# EAGLE library part MC74HC175ADG (library MC74HC175ADG)
ON Semiconductor MC74HC175ADG, D Type Flip Flop, LSTTL, 2 6 V, 16-Pin SOIC Source: Datasheet <http://www.onsemi.com/pub/Collateral/MC74HC175A-D.PDF>
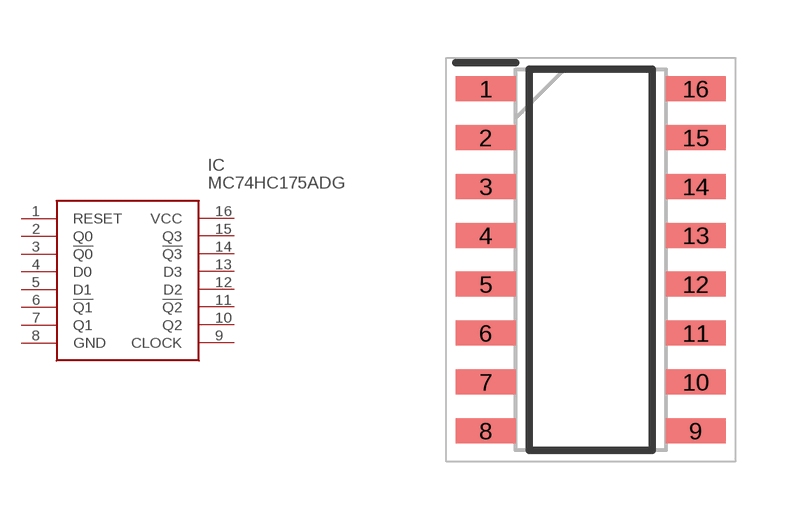
[diagram p0: symbol with the pads of SOIC127P600X175-16N; footprint SOIC127P600X175-16N]

Designator prefix IC

## MC74HC175ADG (Description: ON Semiconductor MC74HC175ADG, D Type Flip Flop, LSTTL, 2 6 V, 16-Pin SOIC; Height: 1.75mm; Manufacturer_Name: onsemi; Manufacturer_Part_Number: MC74HC175ADG; Mouser_Part_Number: 863-MC74HC175ADG; Mouser_Price-Stock: https://www.mouser.co.uk/ProductDetail/onsemi/MC74HC175ADG?qs=qg33o%252B8vzFoIlG2G0iHepQ%3D%3D)  [SOIC127P600X175-16N]
1  RESET
2  Q0
3  !Q0
4  D0
5  D1
6  !Q1
7  Q1
8  GND
9  CLOCK
10  Q2
11  !Q2
12  D2
13  D3
14  !Q3
15  Q3
16  VCC

## Footprint SOIC127P600X175-16N (pad centres in mm)
SOIC-16 CASE751B-05
smd 1.55 x 0.65: 1 -2.725,4.445; 2 -2.725,3.175; 3 -2.725,1.905; 4 -2.725,0.635; 5 -2.725,-0.635; 6 -2.725,-1.905; 7 -2.725,-3.175; 8 -2.725,-4.445; 9 2.725,-4.445; 10 2.725,-3.175; 11 2.725,-1.905; 12 2.725,-0.635; 13 2.725,0.635; 14 2.725,1.905; 15 2.725,3.175; 16 2.725,4.445